# EAGLE library part TRANS_ER38 (library DSS)
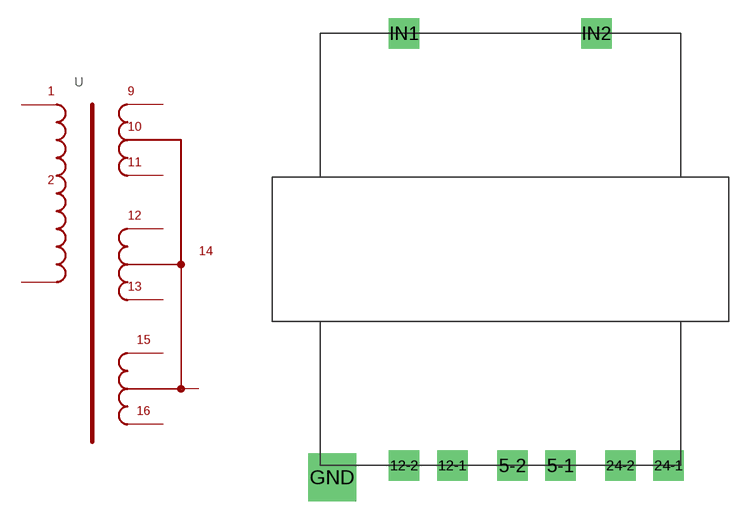
[diagram p11: symbol with the pads of ER38; footprint ER38]

Designator prefix -

## TRANS_ER38  [ER38]
5-1  5-1
5-2  5-2
12-1  12-1
12-2  12-2
24-1  24-1
24-2  24-2
GND  GND
IN1  IN1
IN2  IN2

## Footprint ER38 (pad centres in mm)
drill 1 pad 2.54 square: 5-1 5,-18; 5-2 1,-18; 12-1 -4,-18; 12-2 -8,-18; 24-1 14,-18; 24-2 10,-18; IN1 -8,18; IN2 8,18
drill 2.5 pad 4 square: GND -14,-19